# Altium integrated library TI Amplifiers and Linear Operational Amplifier High Speed.IntLib: 1100 symbols (part 39 of 44)
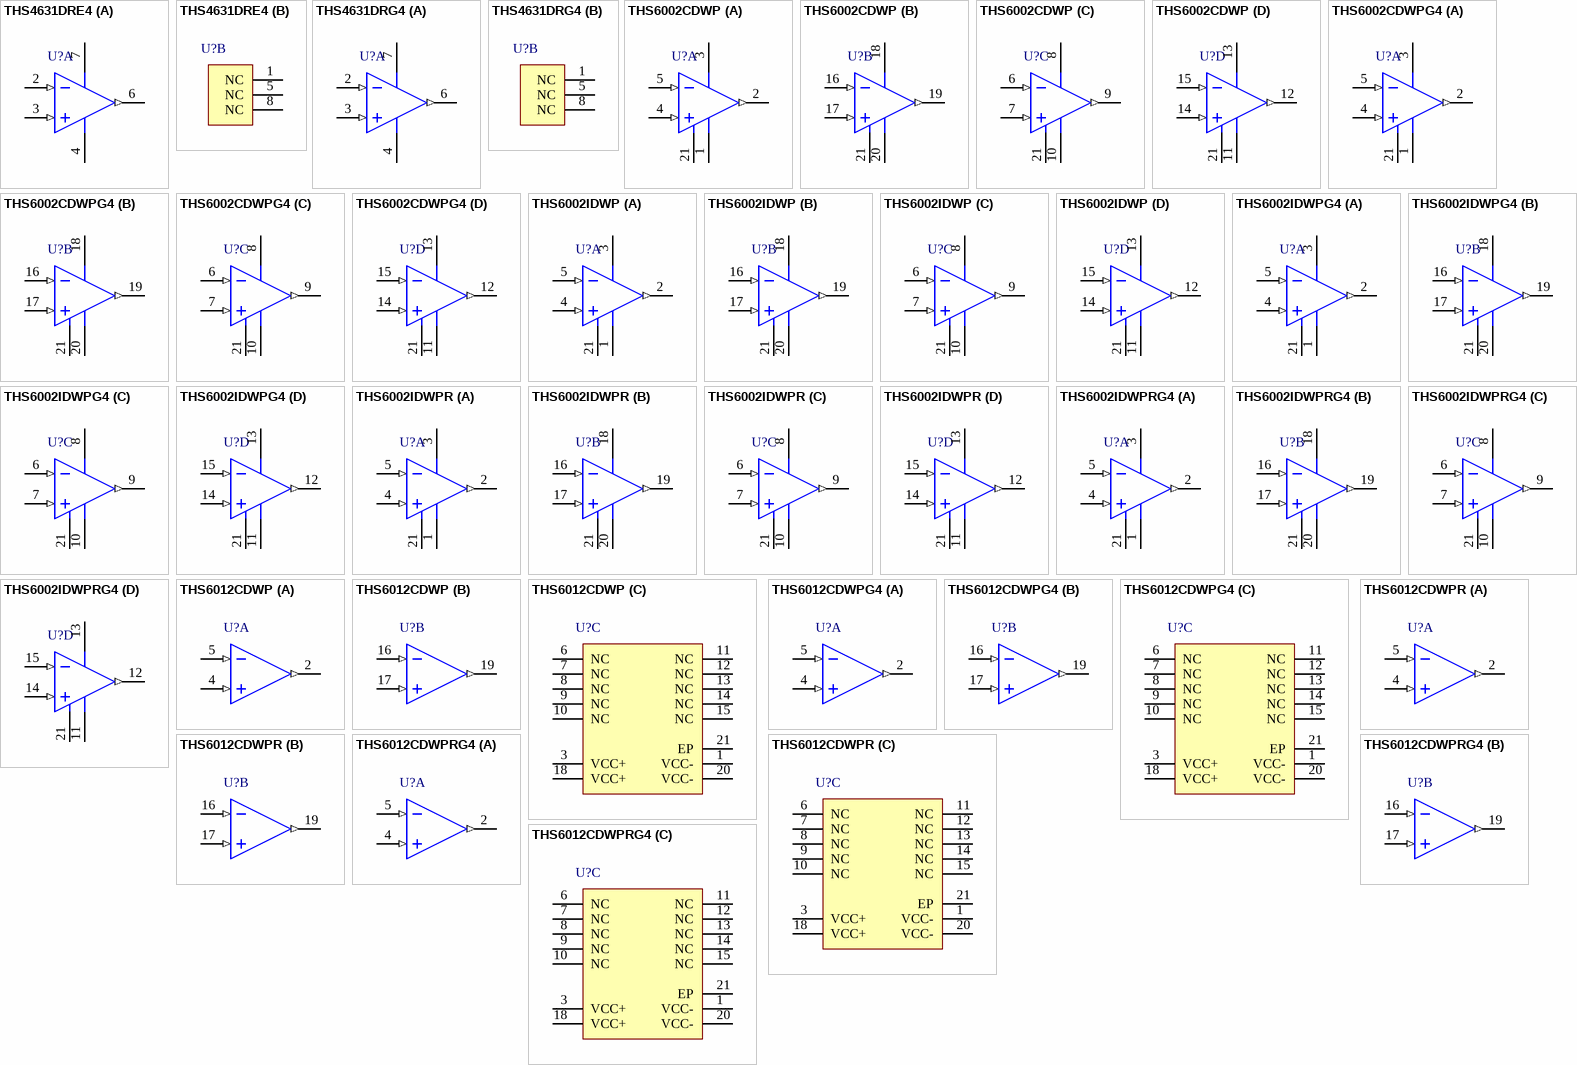
[diagram p89: symbols THS4631DRE4 to THS6012CDWPRG4]

## THS6012CDWP
designator U?
500 mA Dual Differential Line Driver, 9 to 32 V, 0 to 70 degC, 20-pin SOP (DWP20), Green (RoHS & no Sb/Br); Manufacturer: Texas Instruments; PartNumber: THS6012CDWP; 2nd Harmonic(dBc): 80; 3rd Harmonic(dBc): 85; @ MHz: 1; BW @ Acl(MHz): 140; Diff Gain(%): 0.05; Diff Phase(deg): 0.08; Iib(Max)(nA): 12000; Io(Typ)(mA): 500; Number of Channels: 2; Settling Time (0.1%)(Typ)(ns): 70; Slew Rate(Typ)(V/us): 1300; Sub Family: High Output Current Amplifier (>=50mA), High Speed Amplifier (>=50MHz), High Supply Voltage Amplifier (>=30V); THD (Fc is 1 MHz)(Typ)(dB): -65; Vio(Max)(mV): 5; Vn at Flatband(Typ)(nV/rtHz): 1.7; Vs(Max)(V): 32; Vs(Min)(V): 9; DatasheetVersion: SLOS226F; PackageVersion: 4147575/C, 02/2005; PackageReference: DWP20-3470X2350TP; PackageDescription: 20-Pin PowerPAD(TM) Plastic Small-Outline Package, Body 12.825 x 7.52 mm, Pitch 1.27 mm; Supplier 1: Digi-Key; Supplier Part Number 1: 296-2372-5-ND; Supplier 2: Farnell; Supplier Part Number 2: 1212367; Supplier 3: Newark; Supplier Part Number 3: 01M9256; Supplier 4: Newark; Supplier Part Number 4: 76C6513; Supplier 5: Mouser; Supplier Part Number 5: 595-THS6012CDWP; Acl, min stable gain(V/V): 1; Eco-Plan: Green (RoHS & no Sb/Br); Mounting Technology: Surface Mount; ComponentLink1Description: Manufacturer URL; ComponentLink1URL: http://www.ti.com/; ComponentLink2Description: Datasheet; ComponentLink2URL: http://www.ti.com/general/docs/lit/getliterature.tsp?genericPartNumber=THS6012&fileType=pdf; ComponentLink3Description: Package Specification; ComponentLink3URL: http://www.ti.com/lit/ml/mpds032b/mpds032b.pdf
footprint TI-DWP20-3470X2350TP_N (SOP, 20-Leads, Body 12.825x7.52mm, Pitch 1.27mm, Thermal Pad 3.47x2.35mm, IPC Medium Density)
footprint TI-DWP20-3470X2350TP_L (SOP, 20-Leads, Body 12.825x7.52mm, Pitch 1.27mm, Thermal Pad 3.47x2.35mm, IPC High Density)
footprint TI-DWP20-3470X2350TP_M (SOP, 20-Leads, Body 12.825x7.52mm, Pitch 1.27mm, Thermal Pad 3.47x2.35mm, IPC Low Density)
part A pins: 2 OUT1 (out), 4 IN1+ (in), 5 IN1- (in)
part B pins: 16 IN2- (in), 17 IN2+ (in), 19 OUT2 (out)
part C pins: 1 VCC- (power), 3 VCC+ (power), 6 NC, 7 NC, 8 NC, 9 NC, 10 NC, 11 NC, 12 NC, 13 NC, 14 NC, 15 NC, 18 VCC+ (power), 20 VCC- (power), 21 EP (power)

## THS6012CDWPG4
designator U?
500 mA Dual Differential Line Driver, 9 to 32 V, 0 to 70 degC, 20-pin SOP (DWP20), Green (RoHS & no Sb/Br); Manufacturer: Texas Instruments; PartNumber: THS6012CDWPG4; 2nd Harmonic(dBc): 80; 3rd Harmonic(dBc): 85; @ MHz: 1; BW @ Acl(MHz): 140; Diff Gain(%): 0.05; Diff Phase(deg): 0.08; Iib(Max)(nA): 12000; Io(Typ)(mA): 500; Number of Channels: 2; Settling Time (0.1%)(Typ)(ns): 70; Slew Rate(Typ)(V/us): 1300; Sub Family: High Output Current Amplifier (>=50mA), High Speed Amplifier (>=50MHz), High Supply Voltage Amplifier (>=30V); THD (Fc is 1 MHz)(Typ)(dB): -65; Vio(Max)(mV): 5; Vn at Flatband(Typ)(nV/rtHz): 1.7; Vs(Max)(V): 32; Vs(Min)(V): 9; DatasheetVersion: SLOS226F; PackageVersion: 4147575/C, 02/2005; PackageReference: DWP20-3470X2350TP; PackageDescription: 20-Pin PowerPAD(TM) Plastic Small-Outline Package, Body 12.825 x 7.52 mm, Pitch 1.27 mm; Supplier 1: Digi-Key; Supplier Part Number 1: THS6012CDWPG4-ND; Supplier 2: Mouser; Supplier Part Number 2: 595-THS6012CDWPG4; Acl, min stable gain(V/V): 1; Eco-Plan: Green (RoHS & no Sb/Br); Mounting Technology: Surface Mount; ComponentLink1Description: Manufacturer URL; ComponentLink1URL: http://www.ti.com/; ComponentLink2Description: Datasheet; ComponentLink2URL: http://www.ti.com/general/docs/lit/getliterature.tsp?genericPartNumber=THS6012&fileType=pdf; ComponentLink3Description: Package Specification; ComponentLink3URL: http://www.ti.com/lit/ml/mpds032b/mpds032b.pdf
footprint TI-DWP20-3470X2350TP_N (SOP, 20-Leads, Body 12.825x7.52mm, Pitch 1.27mm, Thermal Pad 3.47x2.35mm, IPC Medium Density)
footprint TI-DWP20-3470X2350TP_L (SOP, 20-Leads, Body 12.825x7.52mm, Pitch 1.27mm, Thermal Pad 3.47x2.35mm, IPC High Density)
footprint TI-DWP20-3470X2350TP_M (SOP, 20-Leads, Body 12.825x7.52mm, Pitch 1.27mm, Thermal Pad 3.47x2.35mm, IPC Low Density)
part A pins: 2 OUT1 (out), 4 IN1+ (in), 5 IN1- (in)
part B pins: 16 IN2- (in), 17 IN2+ (in), 19 OUT2 (out)
part C pins: 1 VCC- (power), 3 VCC+ (power), 6 NC, 7 NC, 8 NC, 9 NC, 10 NC, 11 NC, 12 NC, 13 NC, 14 NC, 15 NC, 18 VCC+ (power), 20 VCC- (power), 21 EP (power)

## THS6012CDWPR
designator U?
500 mA Dual Differential Line Driver, 9 to 32 V, 0 to 70 degC, 20-pin SOP (DWP20), Green (RoHS & no Sb/Br); Manufacturer: Texas Instruments; PartNumber: THS6012CDWPR; 2nd Harmonic(dBc): 80; 3rd Harmonic(dBc): 85; @ MHz: 1; BW @ Acl(MHz): 140; Diff Gain(%): 0.05; Diff Phase(deg): 0.08; Iib(Max)(nA): 12000; Io(Typ)(mA): 500; Number of Channels: 2; Settling Time (0.1%)(Typ)(ns): 70; Slew Rate(Typ)(V/us): 1300; Sub Family: High Output Current Amplifier (>=50mA), High Speed Amplifier (>=50MHz), High Supply Voltage Amplifier (>=30V); THD (Fc is 1 MHz)(Typ)(dB): -65; Vio(Max)(mV): 5; Vn at Flatband(Typ)(nV/rtHz): 1.7; Vs(Max)(V): 32; Vs(Min)(V): 9; DatasheetVersion: SLOS226F; PackageVersion: 4147575/C, 02/2005; PackageReference: DWP20-3470X2350TP; PackageDescription: 20-Pin PowerPAD(TM) Plastic Small-Outline Package, Body 12.825 x 7.52 mm, Pitch 1.27 mm; Supplier 1: Digi-Key; Supplier Part Number 1: THS6012CDWPR-ND; Supplier 2: Newark; Supplier Part Number 2: 76C6514; Supplier 3: Mouser; Supplier Part Number 3: 595-THS6012CDWPR; Acl, min stable gain(V/V): 1; Eco-Plan: Green (RoHS & no Sb/Br); Mounting Technology: Surface Mount; ComponentLink1Description: Manufacturer URL; ComponentLink1URL: http://www.ti.com/; ComponentLink2Description: Datasheet; ComponentLink2URL: http://www.ti.com/general/docs/lit/getliterature.tsp?genericPartNumber=THS6012&fileType=pdf; ComponentLink3Description: Package Specification; ComponentLink3URL: http://www.ti.com/lit/ml/mpds032b/mpds032b.pdf
footprint TI-DWP20-3470X2350TP_N (SOP, 20-Leads, Body 12.825x7.52mm, Pitch 1.27mm, Thermal Pad 3.47x2.35mm, IPC Medium Density)
footprint TI-DWP20-3470X2350TP_L (SOP, 20-Leads, Body 12.825x7.52mm, Pitch 1.27mm, Thermal Pad 3.47x2.35mm, IPC High Density)
footprint TI-DWP20-3470X2350TP_M (SOP, 20-Leads, Body 12.825x7.52mm, Pitch 1.27mm, Thermal Pad 3.47x2.35mm, IPC Low Density)
part A pins: 2 OUT1 (out), 4 IN1+ (in), 5 IN1- (in)
part B pins: 16 IN2- (in), 17 IN2+ (in), 19 OUT2 (out)
part C pins: 1 VCC- (power), 3 VCC+ (power), 6 NC, 7 NC, 8 NC, 9 NC, 10 NC, 11 NC, 12 NC, 13 NC, 14 NC, 15 NC, 18 VCC+ (power), 20 VCC- (power), 21 EP (power)

## THS6012CDWPRG4
designator U?
500 mA Dual Differential Line Driver, 9 to 32 V, 0 to 70 degC, 20-pin SOP (DWP20), Green (RoHS & no Sb/Br); Manufacturer: Texas Instruments; PartNumber: THS6012CDWPRG4; 2nd Harmonic(dBc): 80; 3rd Harmonic(dBc): 85; @ MHz: 1; BW @ Acl(MHz): 140; Diff Gain(%): 0.05; Diff Phase(deg): 0.08; Iib(Max)(nA): 12000; Io(Typ)(mA): 500; Number of Channels: 2; Settling Time (0.1%)(Typ)(ns): 70; Slew Rate(Typ)(V/us): 1300; Sub Family: High Output Current Amplifier (>=50mA), High Speed Amplifier (>=50MHz), High Supply Voltage Amplifier (>=30V); THD (Fc is 1 MHz)(Typ)(dB): -65; Vio(Max)(mV): 5; Vn at Flatband(Typ)(nV/rtHz): 1.7; Vs(Max)(V): 32; Vs(Min)(V): 9; DatasheetVersion: SLOS226F; PackageVersion: 4147575/C, 02/2005; PackageReference: DWP20-3470X2350TP; PackageDescription: 20-Pin PowerPAD(TM) Plastic Small-Outline Package, Body 12.825 x 7.52 mm, Pitch 1.27 mm; Supplier 1: Digi-Key; Supplier Part Number 1: THS6012CDWPRG4-ND; Supplier 2: Newark; Supplier Part Number 2: 61K1745; Supplier 3: Mouser; Supplier Part Number 3: 595-THS6012CDWPRG4; Acl, min stable gain(V/V): 1; Eco-Plan: Green (RoHS & no Sb/Br); Mounting Technology: Surface Mount; ComponentLink1Description: Manufacturer URL; ComponentLink1URL: http://www.ti.com/; ComponentLink2Description: Datasheet; ComponentLink2URL: http://www.ti.com/general/docs/lit/getliterature.tsp?genericPartNumber=THS6012&fileType=pdf; ComponentLink3Description: Package Specification; ComponentLink3URL: http://www.ti.com/lit/ml/mpds032b/mpds032b.pdf
footprint TI-DWP20-3470X2350TP_N (SOP, 20-Leads, Body 12.825x7.52mm, Pitch 1.27mm, Thermal Pad 3.47x2.35mm, IPC Medium Density)
footprint TI-DWP20-3470X2350TP_L (SOP, 20-Leads, Body 12.825x7.52mm, Pitch 1.27mm, Thermal Pad 3.47x2.35mm, IPC High Density)
footprint TI-DWP20-3470X2350TP_M (SOP, 20-Leads, Body 12.825x7.52mm, Pitch 1.27mm, Thermal Pad 3.47x2.35mm, IPC Low Density)
part A pins: 2 OUT1 (out), 4 IN1+ (in), 5 IN1- (in)
part B pins: 16 IN2- (in), 17 IN2+ (in), 19 OUT2 (out)
part C pins: 1 VCC- (power), 3 VCC+ (power), 6 NC, 7 NC, 8 NC, 9 NC, 10 NC, 11 NC, 12 NC, 13 NC, 14 NC, 15 NC, 18 VCC+ (power), 20 VCC- (power), 21 EP (power)

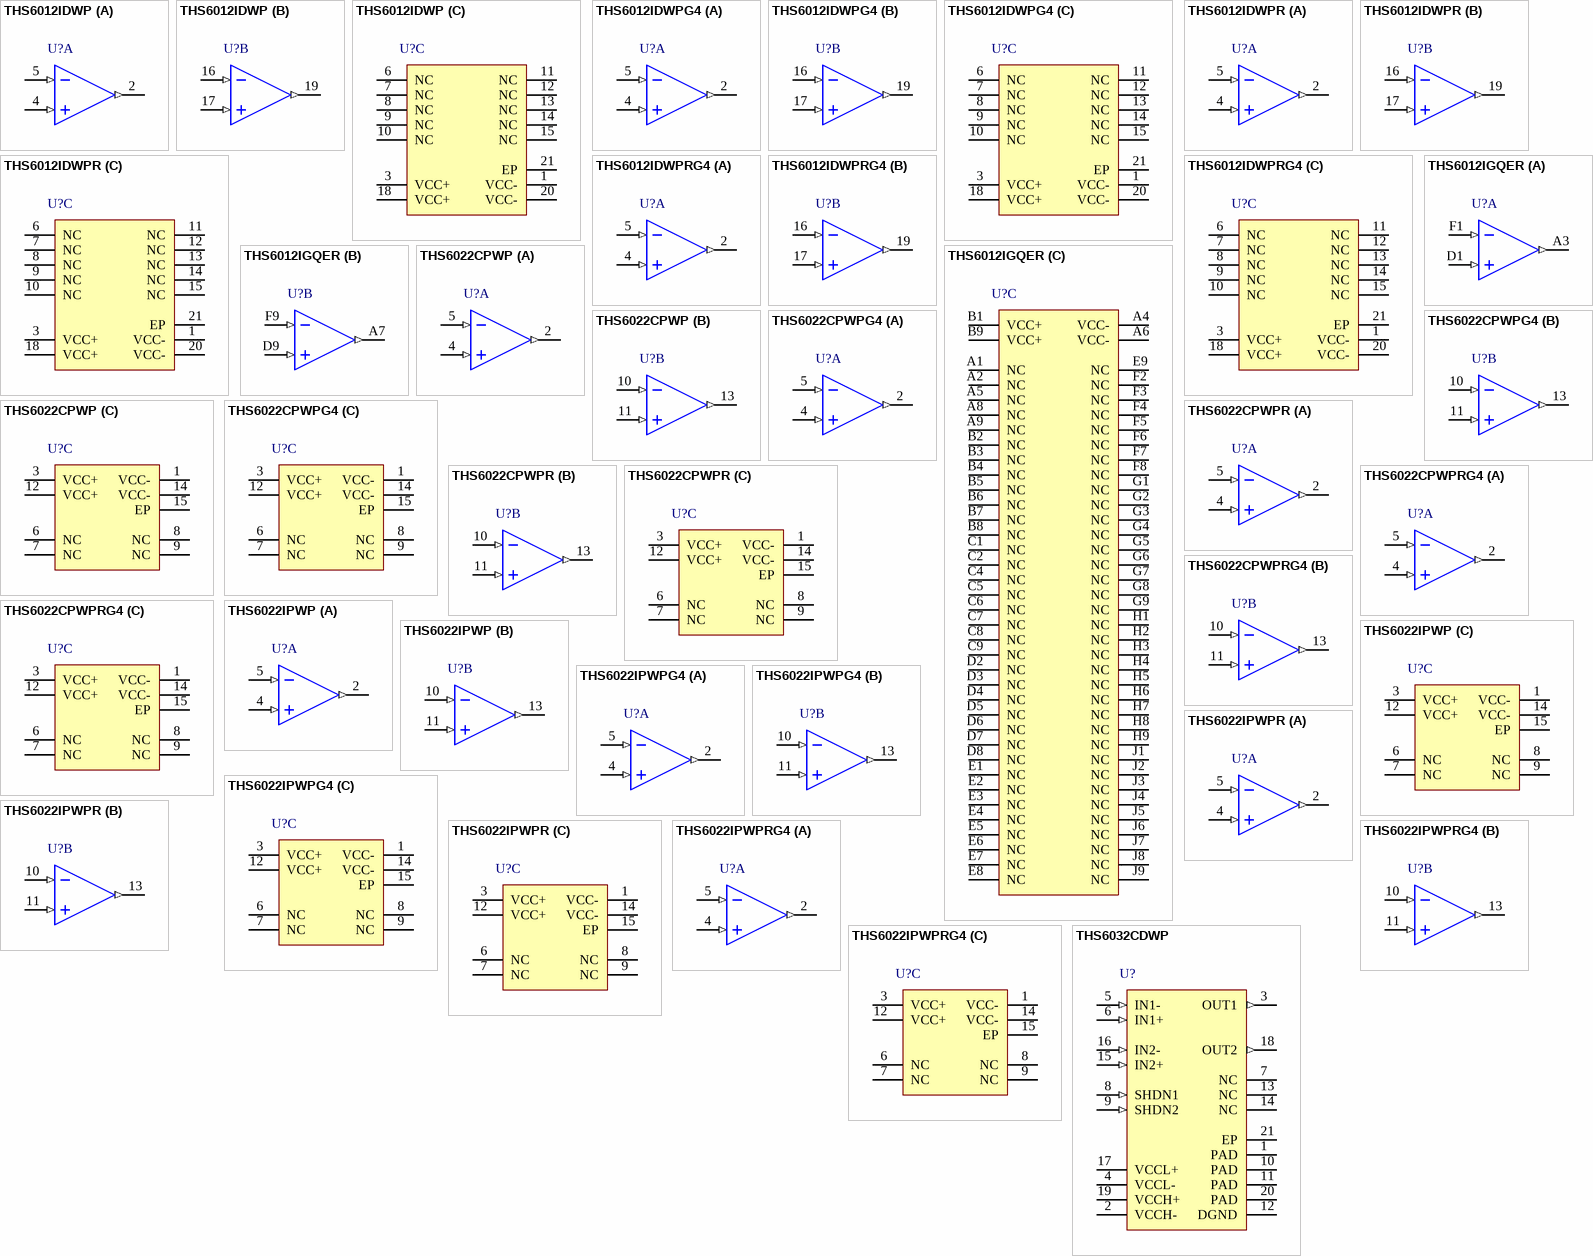
[diagram p45: symbols THS6012IDWP to THS6032CDWP]

## THS6012IDWP
designator U?
500 mA Dual Differential Line Driver, 9 to 32 V, -40 to 85 degC, 20-pin SOP (DWP20), Green (RoHS & no Sb/Br); Manufacturer: Texas Instruments; PartNumber: THS6012IDWP; 2nd Harmonic(dBc): 80; 3rd Harmonic(dBc): 85; @ MHz: 1; BW @ Acl(MHz): 140; Diff Gain(%): 0.05; Diff Phase(deg): 0.08; Iib(Max)(nA): 12000; Io(Typ)(mA): 500; Number of Channels: 2; Settling Time (0.1%)(Typ)(ns): 70; Slew Rate(Typ)(V/us): 1300; Sub Family: High Output Current Amplifier (>=50mA), High Speed Amplifier (>=50MHz), High Supply Voltage Amplifier (>=30V); THD (Fc is 1 MHz)(Typ)(dB): -65; Vio(Max)(mV): 5; Vn at Flatband(Typ)(nV/rtHz): 1.7; Vs(Max)(V): 32; Vs(Min)(V): 9; DatasheetVersion: SLOS226F; PackageVersion: 4147575/C, 02/2005; PackageReference: DWP20-3470X2350TP; PackageDescription: 20-Pin PowerPAD(TM) Plastic Small-Outline Package, Body 12.825 x 7.52 mm, Pitch 1.27 mm; Supplier 1: Digi-Key; Supplier Part Number 1: 296-1767-5-ND; Supplier 2: Farnell; Supplier Part Number 2: 8453454; Supplier 3: Newark; Supplier Part Number 3: 28M9297; Supplier 4: Mouser; Supplier Part Number 4: 595-THS6012IDWP; Acl, min stable gain(V/V): 1; Eco-Plan: Green (RoHS & no Sb/Br); Mounting Technology: Surface Mount; ComponentLink1Description: Manufacturer URL; ComponentLink1URL: http://www.ti.com/; ComponentLink2Description: Datasheet; ComponentLink2URL: http://www.ti.com/general/docs/lit/getliterature.tsp?genericPartNumber=THS6012&fileType=pdf; ComponentLink3Description: Package Specification; ComponentLink3URL: http://www.ti.com/lit/ml/mpds032b/mpds032b.pdf
footprint TI-DWP20-3470X2350TP_N (SOP, 20-Leads, Body 12.825x7.52mm, Pitch 1.27mm, Thermal Pad 3.47x2.35mm, IPC Medium Density)
footprint TI-DWP20-3470X2350TP_L (SOP, 20-Leads, Body 12.825x7.52mm, Pitch 1.27mm, Thermal Pad 3.47x2.35mm, IPC High Density)
footprint TI-DWP20-3470X2350TP_M (SOP, 20-Leads, Body 12.825x7.52mm, Pitch 1.27mm, Thermal Pad 3.47x2.35mm, IPC Low Density)
part A pins: 2 OUT1 (out), 4 IN1+ (in), 5 IN1- (in)
part B pins: 16 IN2- (in), 17 IN2+ (in), 19 OUT2 (out)
part C pins: 1 VCC- (power), 3 VCC+ (power), 6 NC, 7 NC, 8 NC, 9 NC, 10 NC, 11 NC, 12 NC, 13 NC, 14 NC, 15 NC, 18 VCC+ (power), 20 VCC- (power), 21 EP (power)

## THS6012IDWPG4
designator U?
500 mA Dual Differential Line Driver, 9 to 32 V, -40 to 85 degC, 20-pin SOP (DWP20), Green (RoHS & no Sb/Br); Manufacturer: Texas Instruments; PartNumber: THS6012IDWPG4; 2nd Harmonic(dBc): 80; 3rd Harmonic(dBc): 85; @ MHz: 1; BW @ Acl(MHz): 140; Diff Gain(%): 0.05; Diff Phase(deg): 0.08; Iib(Max)(nA): 12000; Io(Typ)(mA): 500; Number of Channels: 2; Settling Time (0.1%)(Typ)(ns): 70; Slew Rate(Typ)(V/us): 1300; Sub Family: High Output Current Amplifier (>=50mA), High Speed Amplifier (>=50MHz), High Supply Voltage Amplifier (>=30V); THD (Fc is 1 MHz)(Typ)(dB): -65; Vio(Max)(mV): 5; Vn at Flatband(Typ)(nV/rtHz): 1.7; Vs(Max)(V): 32; Vs(Min)(V): 9; DatasheetVersion: SLOS226F; PackageVersion: 4147575/C, 02/2005; PackageReference: DWP20-3470X2350TP; PackageDescription: 20-Pin PowerPAD(TM) Plastic Small-Outline Package, Body 12.825 x 7.52 mm, Pitch 1.27 mm; Supplier 1: Digi-Key; Supplier Part Number 1: THS6012IDWPG4-ND; Supplier 2: Newark; Supplier Part Number 2: 41M5387; Supplier 3: Mouser; Supplier Part Number 3: 595-THS6012IDWPG4; Acl, min stable gain(V/V): 1; Eco-Plan: Green (RoHS & no Sb/Br); Mounting Technology: Surface Mount; ComponentLink1Description: Manufacturer URL; ComponentLink1URL: http://www.ti.com/; ComponentLink2Description: Datasheet; ComponentLink2URL: http://www.ti.com/general/docs/lit/getliterature.tsp?genericPartNumber=THS6012&fileType=pdf; ComponentLink3Description: Package Specification; ComponentLink3URL: http://www.ti.com/lit/ml/mpds032b/mpds032b.pdf
footprint TI-DWP20-3470X2350TP_N (SOP, 20-Leads, Body 12.825x7.52mm, Pitch 1.27mm, Thermal Pad 3.47x2.35mm, IPC Medium Density)
footprint TI-DWP20-3470X2350TP_L (SOP, 20-Leads, Body 12.825x7.52mm, Pitch 1.27mm, Thermal Pad 3.47x2.35mm, IPC High Density)
footprint TI-DWP20-3470X2350TP_M (SOP, 20-Leads, Body 12.825x7.52mm, Pitch 1.27mm, Thermal Pad 3.47x2.35mm, IPC Low Density)
part A pins: 2 OUT1 (out), 4 IN1+ (in), 5 IN1- (in)
part B pins: 16 IN2- (in), 17 IN2+ (in), 19 OUT2 (out)
part C pins: 1 VCC- (power), 3 VCC+ (power), 6 NC, 7 NC, 8 NC, 9 NC, 10 NC, 11 NC, 12 NC, 13 NC, 14 NC, 15 NC, 18 VCC+ (power), 20 VCC- (power), 21 EP (power)

## THS6012IDWPR
designator U?
500 mA Dual Differential Line Driver, 9 to 32 V, -40 to 85 degC, 20-pin SOP (DWP20), Green (RoHS & no Sb/Br); Manufacturer: Texas Instruments; PartNumber: THS6012IDWPR; 2nd Harmonic(dBc): 80; 3rd Harmonic(dBc): 85; @ MHz: 1; BW @ Acl(MHz): 140; Diff Gain(%): 0.05; Diff Phase(deg): 0.08; Iib(Max)(nA): 12000; Io(Typ)(mA): 500; Number of Channels: 2; Settling Time (0.1%)(Typ)(ns): 70; Slew Rate(Typ)(V/us): 1300; Sub Family: High Output Current Amplifier (>=50mA), High Speed Amplifier (>=50MHz), High Supply Voltage Amplifier (>=30V); THD (Fc is 1 MHz)(Typ)(dB): -65; Vio(Max)(mV): 5; Vn at Flatband(Typ)(nV/rtHz): 1.7; Vs(Max)(V): 32; Vs(Min)(V): 9; DatasheetVersion: SLOS226F; PackageVersion: 4147575/C, 02/2005; PackageReference: DWP20-3470X2350TP; PackageDescription: 20-Pin PowerPAD(TM) Plastic Small-Outline Package, Body 12.825 x 7.52 mm, Pitch 1.27 mm; Supplier 1: Digi-Key; Supplier Part Number 1: THS6012IDWPR-ND; Supplier 2: Newark; Supplier Part Number 2: 76C6516; Supplier 3: Mouser; Supplier Part Number 3: 595-THS6012IDWPR; Acl, min stable gain(V/V): 1; Eco-Plan: Green (RoHS & no Sb/Br); Mounting Technology: Surface Mount; ComponentLink1Description: Manufacturer URL; ComponentLink1URL: http://www.ti.com/; ComponentLink2Description: Datasheet; ComponentLink2URL: http://www.ti.com/general/docs/lit/getliterature.tsp?genericPartNumber=THS6012&fileType=pdf; ComponentLink3Description: Package Specification; ComponentLink3URL: http://www.ti.com/lit/ml/mpds032b/mpds032b.pdf
footprint TI-DWP20-3470X2350TP_N (SOP, 20-Leads, Body 12.825x7.52mm, Pitch 1.27mm, Thermal Pad 3.47x2.35mm, IPC Medium Density)
footprint TI-DWP20-3470X2350TP_L (SOP, 20-Leads, Body 12.825x7.52mm, Pitch 1.27mm, Thermal Pad 3.47x2.35mm, IPC High Density)
footprint TI-DWP20-3470X2350TP_M (SOP, 20-Leads, Body 12.825x7.52mm, Pitch 1.27mm, Thermal Pad 3.47x2.35mm, IPC Low Density)
part A pins: 2 OUT1 (out), 4 IN1+ (in), 5 IN1- (in)
part B pins: 16 IN2- (in), 17 IN2+ (in), 19 OUT2 (out)
part C pins: 1 VCC- (power), 3 VCC+ (power), 6 NC, 7 NC, 8 NC, 9 NC, 10 NC, 11 NC, 12 NC, 13 NC, 14 NC, 15 NC, 18 VCC+ (power), 20 VCC- (power), 21 EP (power)

## THS6012IDWPRG4
designator U?
500 mA Dual Differential Line Driver, 9 to 32 V, -40 to 85 degC, 20-pin SOP (DWP20), Green (RoHS & no Sb/Br); Manufacturer: Texas Instruments; PartNumber: THS6012IDWPRG4; 2nd Harmonic(dBc): 80; 3rd Harmonic(dBc): 85; @ MHz: 1; BW @ Acl(MHz): 140; Diff Gain(%): 0.05; Diff Phase(deg): 0.08; Iib(Max)(nA): 12000; Io(Typ)(mA): 500; Number of Channels: 2; Settling Time (0.1%)(Typ)(ns): 70; Slew Rate(Typ)(V/us): 1300; Sub Family: High Output Current Amplifier (>=50mA), High Speed Amplifier (>=50MHz), High Supply Voltage Amplifier (>=30V); THD (Fc is 1 MHz)(Typ)(dB): -65; Vio(Max)(mV): 5; Vn at Flatband(Typ)(nV/rtHz): 1.7; Vs(Max)(V): 32; Vs(Min)(V): 9; DatasheetVersion: SLOS226F; PackageVersion: 4147575/C, 02/2005; PackageReference: DWP20-3470X2350TP; PackageDescription: 20-Pin PowerPAD(TM) Plastic Small-Outline Package, Body 12.825 x 7.52 mm, Pitch 1.27 mm; Supplier 1: Digi-Key; Supplier Part Number 1: THS6012IDWPRG4-ND; Supplier 2: Newark; Supplier Part Number 2: 61K1746; Supplier 3: Mouser; Supplier Part Number 3: 595-THS6012IDWPRG4; Acl, min stable gain(V/V): 1; Eco-Plan: Green (RoHS & no Sb/Br); Mounting Technology: Surface Mount; ComponentLink1Description: Manufacturer URL; ComponentLink1URL: http://www.ti.com/; ComponentLink2Description: Datasheet; ComponentLink2URL: http://www.ti.com/general/docs/lit/getliterature.tsp?genericPartNumber=THS6012&fileType=pdf; ComponentLink3Description: Package Specification; ComponentLink3URL: http://www.ti.com/lit/ml/mpds032b/mpds032b.pdf
footprint TI-DWP20-3470X2350TP_N (SOP, 20-Leads, Body 12.825x7.52mm, Pitch 1.27mm, Thermal Pad 3.47x2.35mm, IPC Medium Density)
footprint TI-DWP20-3470X2350TP_L (SOP, 20-Leads, Body 12.825x7.52mm, Pitch 1.27mm, Thermal Pad 3.47x2.35mm, IPC High Density)
footprint TI-DWP20-3470X2350TP_M (SOP, 20-Leads, Body 12.825x7.52mm, Pitch 1.27mm, Thermal Pad 3.47x2.35mm, IPC Low Density)
part A pins: 2 OUT1 (out), 4 IN1+ (in), 5 IN1- (in)
part B pins: 16 IN2- (in), 17 IN2+ (in), 19 OUT2 (out)
part C pins: 1 VCC- (power), 3 VCC+ (power), 6 NC, 7 NC, 8 NC, 9 NC, 10 NC, 11 NC, 12 NC, 13 NC, 14 NC, 15 NC, 18 VCC+ (power), 20 VCC- (power), 21 EP (power)

## THS6012IGQER
designator U?
500 mA Dual Differential Line Driver, 9 to 32 V, -40 to 85 degC, 80-pin BGA (GQE80); Manufacturer: Texas Instruments; PartNumber: THS6012IGQER; 2nd Harmonic(dBc): 80; 3rd Harmonic(dBc): 85; @ MHz: 1; BW @ Acl(MHz): 140; Diff Gain(%): 0.05; Diff Phase(deg): 0.08; Eco-Plan: Green (RoHS & no Sb/Br); Iib(Max)(nA): 12000; Io(Typ)(mA): 500; Number of Channels: 2; Settling Time (0.1%)(Typ)(ns): 70; Slew Rate(Typ)(V/us): 1300; Sub Family: High Output Current Amplifier (>=50mA), High Speed Amplifier (>=50MHz), High Supply Voltage Amplifier (>=30V); THD (Fc is 1 MHz)(Typ)(dB): -65; Vio(Max)(mV): 5; Vn at Flatband(Typ)(nV/rtHz): 1.7; Vs(Max)(V): 32; Vs(Min)(V): 9; DatasheetVersion: SLOS226F; PackageVersion: 4200461-4/G, 10/2005; PackageReference: GQE80; PackageDescription: 80-Ball Plastic Ball Grid Array, Body 5 x 5 mm, Pitch 0.5 mm; Supplier 1: Digi-Key; Supplier Part Number 1: 296-10062-2-ND; Supplier 2: Digi-Key; Supplier Part Number 2: 296-10062-1-ND; Supplier 3: Digi-Key; Supplier Part Number 3: 296-10062-6-ND; Supplier 4: Newark; Supplier Part Number 4: 76C6517; Supplier 5: Mouser; Supplier Part Number 5: 595-THS6012IGQER; Acl, min stable gain(V/V): 1; Mounting Technology: Surface Mount; Code_JEDEC: MO-225; ComponentLink1Description: Manufacturer URL; ComponentLink1URL: http://www.ti.com/; ComponentLink2Description: Datasheet; ComponentLink2URL: http://www.ti.com/general/docs/lit/getliterature.tsp?genericPartNumber=THS6012&fileType=pdf; ComponentLink3Description: Package Specification; ComponentLink3URL: http://www.ti.com/litv/pdf/mplg004f
footprint TI-GQE80 (BGA, 80-Balls, Body 5x5mm, Pitch 0.5mm)
part A pins: A3 OUT1 (out), D1 IN1+ (in), F1 IN1- (in)
part B pins: A7 OUT2 (out), D9 IN2+ (in), F9 IN2- (in)
part C pins: A1 NC, A2 NC, A4 VCC- (power), A5 NC, A6 VCC- (power), A8 NC, A9 NC, B1 VCC+ (power), B2 NC, B3 NC, B4 NC, B5 NC, B6 NC, B7 NC, B8 NC, B9 VCC+ (power), C1 NC, C2 NC, C4 NC, C5 NC, C6 NC, C7 NC, C8 NC, C9 NC, D2 NC, D3 NC, D4 NC, D5 NC, D6 NC, D7 NC, D8 NC, E1 NC, E2 NC, E3 NC, E4 NC, E5 NC, E6 NC, E7 NC, E8 NC, E9 NC, F2 NC, F3 NC, F4 NC, F5 NC, F6 NC, F7 NC, F8 NC, G1 NC, G2 NC, G3 NC, G4 NC, G5 NC, G6 NC, G7 NC, G8 NC, G9 NC, H1 NC, H2 NC, H3 NC, H4 NC, H5 NC, H6 NC, H7 NC, H8 NC, H9 NC, J1 NC, J2 NC, J3 NC, J4 NC, J5 NC, J6 NC, J7 NC, J8 NC, J9 NC

## THS6022CPWP
designator U?
250 mA Dual Differential Line Driver, 9 to 32 V, 0 to 70 degC, 14-pin SOP (PWP14), Green (RoHS & no Sb/Br); Manufacturer: Texas Instruments; PartNumber: THS6022CPWP; 2nd Harmonic(dBc): 76; 3rd Harmonic(dBc): 80; @ MHz: 1; BW @ Acl(MHz): 210; Diff Gain(%): 0.04; Diff Phase(deg): 0.06; Iib(Max)(nA): 12000; Io(Typ)(mA): 250; Iq per channel(Max)(mA): 10; Number of Channels: 2; Settling Time (0.1%)(Typ)(ns): 70; Slew Rate(Typ)(V/us): 1900; Sub Family: High Output Current Amplifier (>=50mA), High Speed Amplifier (>=50MHz), High Supply Voltage Amplifier (>=30V); THD (Fc is 1 MHz)(Typ)(dB): -66; Vio(Max)(mV): 4; Vn at Flatband(Typ)(nV/rtHz): 1.7; Vs(Max)(V): 32; Vs(Min)(V): 9; DatasheetVersion: SLOS225D; PackageVersion: 4073225-2/I, 05/2011; PackageReference: PWP14-1830X2055TP; PackageDescription: 14-Pin Plastic Small Outline, Body 4.4 x 5 mm, Pitch 0.65 mm; Supplier 1: Digi-Key; Supplier Part Number 1: 296-1768-5-ND; Supplier 2: Newark; Supplier Part Number 2: 20M5799; Supplier 3: Mouser; Supplier Part Number 3: 595-THS6022CPWP; Acl, min stable gain(V/V): 1; Eco-Plan: Green (RoHS & no Sb/Br); Mounting Technology: Surface Mount; Code_JEDEC: MO-153; ComponentLink1Description: Manufacturer URL; ComponentLink1URL: http://www.ti.com/; ComponentLink2Description: Datasheet; ComponentLink2URL: http://www.ti.com/general/docs/lit/getliterature.tsp?genericPartNumber=THS6022&fileType=pdf; ComponentLink3Description: Package Specification; ComponentLink3URL: http://www.ti.com/litv/pdf/mpds373
footprint TI-PWP14-1830X2055TP_N (SOP, 14-Leads, Body 5x4.4mm, Pitch 0.65mm, Thermal Pad 1.830x2.055mm, IPC Medium Density)
footprint TI-PWP14-1830X2055TP_L (SOP, 14-Leads, Body 5x4.4mm, Pitch 0.65mm, Thermal Pad 1.830x2.055mm, IPC High Density)
footprint TI-PWP14-1830X2055TP_M (SOP, 14-Leads, Body 5x4.4mm, Pitch 0.65mm, Thermal Pad 1.830x2.055mm, IPC Low Density)
part A pins: 2 OUT1 (out), 4 IN1+ (in), 5 IN1- (in)
part B pins: 10 IN2- (in), 11 IN2+ (in), 13 OUT2 (out)
part C pins: 1 VCC- (power), 3 VCC+ (power), 6 NC, 7 NC, 8 NC, 9 NC, 12 VCC+ (power), 14 VCC- (power), 15 EP

## THS6022CPWPG4
designator U?
250 mA Dual Differential Line Driver, 9 to 32 V, 0 to 70 degC, 14-pin SOP (PWP14), Green (RoHS & no Sb/Br); Manufacturer: Texas Instruments; PartNumber: THS6022CPWPG4; 2nd Harmonic(dBc): 76; 3rd Harmonic(dBc): 80; @ MHz: 1; BW @ Acl(MHz): 210; Diff Gain(%): 0.04; Diff Phase(deg): 0.06; Iib(Max)(nA): 12000; Io(Typ)(mA): 250; Iq per channel(Max)(mA): 10; Number of Channels: 2; Settling Time (0.1%)(Typ)(ns): 70; Slew Rate(Typ)(V/us): 1900; Sub Family: High Output Current Amplifier (>=50mA), High Speed Amplifier (>=50MHz), High Supply Voltage Amplifier (>=30V); THD (Fc is 1 MHz)(Typ)(dB): -66; Vio(Max)(mV): 4; Vn at Flatband(Typ)(nV/rtHz): 1.7; Vs(Max)(V): 32; Vs(Min)(V): 9; DatasheetVersion: SLOS225D; PackageVersion: 4073225-2/I, 05/2011; PackageReference: PWP14-1830X2055TP; PackageDescription: 14-Pin Plastic Small Outline, Body 4.4 x 5 mm, Pitch 0.65 mm; Supplier 1: Digi-Key; Supplier Part Number 1: THS6022CPWPG4-ND; Supplier 2: Newark; Supplier Part Number 2: 33K6982; Supplier 3: Mouser; Supplier Part Number 3: 595-THS6022CPWPG4; Acl, min stable gain(V/V): 1; Eco-Plan: Green (RoHS & no Sb/Br); Mounting Technology: Surface Mount; Code_JEDEC: MO-153; ComponentLink1Description: Manufacturer URL; ComponentLink1URL: http://www.ti.com/; ComponentLink2Description: Datasheet; ComponentLink2URL: http://www.ti.com/general/docs/lit/getliterature.tsp?genericPartNumber=THS6022&fileType=pdf; ComponentLink3Description: Package Specification; ComponentLink3URL: http://www.ti.com/litv/pdf/mpds373
footprint TI-PWP14-1830X2055TP_N (SOP, 14-Leads, Body 5x4.4mm, Pitch 0.65mm, Thermal Pad 1.830x2.055mm, IPC Medium Density)
footprint TI-PWP14-1830X2055TP_L (SOP, 14-Leads, Body 5x4.4mm, Pitch 0.65mm, Thermal Pad 1.830x2.055mm, IPC High Density)
footprint TI-PWP14-1830X2055TP_M (SOP, 14-Leads, Body 5x4.4mm, Pitch 0.65mm, Thermal Pad 1.830x2.055mm, IPC Low Density)
part A pins: 2 OUT1 (out), 4 IN1+ (in), 5 IN1- (in)
part B pins: 10 IN2- (in), 11 IN2+ (in), 13 OUT2 (out)
part C pins: 1 VCC- (power), 3 VCC+ (power), 6 NC, 7 NC, 8 NC, 9 NC, 12 VCC+ (power), 14 VCC- (power), 15 EP

## THS6022CPWPR
designator U?
250 mA Dual Differential Line Driver, 9 to 32 V, 0 to 70 degC, 14-pin SOP (PWP14), Green (RoHS & no Sb/Br); Manufacturer: Texas Instruments; PartNumber: THS6022CPWPR; 2nd Harmonic(dBc): 76; 3rd Harmonic(dBc): 80; @ MHz: 1; BW @ Acl(MHz): 210; Diff Gain(%): 0.04; Diff Phase(deg): 0.06; Iib(Max)(nA): 12000; Io(Typ)(mA): 250; Iq per channel(Max)(mA): 10; Number of Channels: 2; Settling Time (0.1%)(Typ)(ns): 70; Slew Rate(Typ)(V/us): 1900; Sub Family: High Output Current Amplifier (>=50mA), High Speed Amplifier (>=50MHz), High Supply Voltage Amplifier (>=30V); THD (Fc is 1 MHz)(Typ)(dB): -66; Vio(Max)(mV): 4; Vn at Flatband(Typ)(nV/rtHz): 1.7; Vs(Max)(V): 32; Vs(Min)(V): 9; DatasheetVersion: SLOS225D; PackageVersion: 4073225-2/I, 05/2011; PackageReference: PWP14-1830X2055TP; PackageDescription: 14-Pin Plastic Small Outline, Body 4.4 x 5 mm, Pitch 0.65 mm; Supplier 1: Digi-Key; Supplier Part Number 1: 296-31935-2-ND; Supplier 2: Digi-Key; Supplier Part Number 2: 296-31935-1-ND; Supplier 3: Digi-Key; Supplier Part Number 3: 296-31935-6-ND; Supplier 4: Newark; Supplier Part Number 4: 76C6518; Supplier 5: Mouser; Supplier Part Number 5: 595-THS6022CPWPR; Acl, min stable gain(V/V): 1; Eco-Plan: Green (RoHS & no Sb/Br); Mounting Technology: Surface Mount; Code_JEDEC: MO-153; ComponentLink1Description: Manufacturer URL; ComponentLink1URL: http://www.ti.com/; ComponentLink2Description: Datasheet; ComponentLink2URL: http://www.ti.com/general/docs/lit/getliterature.tsp?genericPartNumber=THS6022&fileType=pdf; ComponentLink3Description: Package Specification; ComponentLink3URL: http://www.ti.com/litv/pdf/mpds373
footprint TI-PWP14-1830X2055TP_N (SOP, 14-Leads, Body 5x4.4mm, Pitch 0.65mm, Thermal Pad 1.830x2.055mm, IPC Medium Density)
footprint TI-PWP14-1830X2055TP_L (SOP, 14-Leads, Body 5x4.4mm, Pitch 0.65mm, Thermal Pad 1.830x2.055mm, IPC High Density)
footprint TI-PWP14-1830X2055TP_M (SOP, 14-Leads, Body 5x4.4mm, Pitch 0.65mm, Thermal Pad 1.830x2.055mm, IPC Low Density)
part A pins: 2 OUT1 (out), 4 IN1+ (in), 5 IN1- (in)
part B pins: 10 IN2- (in), 11 IN2+ (in), 13 OUT2 (out)
part C pins: 1 VCC- (power), 3 VCC+ (power), 6 NC, 7 NC, 8 NC, 9 NC, 12 VCC+ (power), 14 VCC- (power), 15 EP

## THS6022CPWPRG4
designator U?
250 mA Dual Differential Line Driver, 9 to 32 V, 0 to 70 degC, 14-pin SOP (PWP14), Green (RoHS & no Sb/Br); Manufacturer: Texas Instruments; PartNumber: THS6022CPWPRG4; 2nd Harmonic(dBc): 76; 3rd Harmonic(dBc): 80; @ MHz: 1; BW @ Acl(MHz): 210; Diff Gain(%): 0.04; Diff Phase(deg): 0.06; Iib(Max)(nA): 12000; Io(Typ)(mA): 250; Iq per channel(Max)(mA): 10; Number of Channels: 2; Settling Time (0.1%)(Typ)(ns): 70; Slew Rate(Typ)(V/us): 1900; Sub Family: High Output Current Amplifier (>=50mA), High Speed Amplifier (>=50MHz), High Supply Voltage Amplifier (>=30V); THD (Fc is 1 MHz)(Typ)(dB): -66; Vio(Max)(mV): 4; Vn at Flatband(Typ)(nV/rtHz): 1.7; Vs(Max)(V): 32; Vs(Min)(V): 9; DatasheetVersion: SLOS225D; PackageVersion: 4073225-2/I, 05/2011; PackageReference: PWP14-1830X2055TP; PackageDescription: 14-Pin Plastic Small Outline, Body 4.4 x 5 mm, Pitch 0.65 mm; Supplier 1: Digi-Key; Supplier Part Number 1: THS6022CPWPRG4-ND; Supplier 2: Newark; Supplier Part Number 2: 54K0776; Supplier 3: Mouser; Supplier Part Number 3: 595-THS6022CPWPRG4; Acl, min stable gain(V/V): 1; Eco-Plan: Green (RoHS & no Sb/Br); Mounting Technology: Surface Mount; Code_JEDEC: MO-153; ComponentLink1Description: Manufacturer URL; ComponentLink1URL: http://www.ti.com/; ComponentLink2Description: Datasheet; ComponentLink2URL: http://www.ti.com/general/docs/lit/getliterature.tsp?genericPartNumber=THS6022&fileType=pdf; ComponentLink3Description: Package Specification; ComponentLink3URL: http://www.ti.com/litv/pdf/mpds373
footprint TI-PWP14-1830X2055TP_N (SOP, 14-Leads, Body 5x4.4mm, Pitch 0.65mm, Thermal Pad 1.830x2.055mm, IPC Medium Density)
footprint TI-PWP14-1830X2055TP_L (SOP, 14-Leads, Body 5x4.4mm, Pitch 0.65mm, Thermal Pad 1.830x2.055mm, IPC High Density)
footprint TI-PWP14-1830X2055TP_M (SOP, 14-Leads, Body 5x4.4mm, Pitch 0.65mm, Thermal Pad 1.830x2.055mm, IPC Low Density)
part A pins: 2 OUT1 (out), 4 IN1+ (in), 5 IN1- (in)
part B pins: 10 IN2- (in), 11 IN2+ (in), 13 OUT2 (out)
part C pins: 1 VCC- (power), 3 VCC+ (power), 6 NC, 7 NC, 8 NC, 9 NC, 12 VCC+ (power), 14 VCC- (power), 15 EP

## THS6022IPWP
designator U?
250 mA Dual Differential Line Driver, 9 to 32 V, -40 to 85 degC, 14-pin SOP (PWP14), Green (RoHS & no Sb/Br); Manufacturer: Texas Instruments; PartNumber: THS6022IPWP; 2nd Harmonic(dBc): 76; 3rd Harmonic(dBc): 80; @ MHz: 1; BW @ Acl(MHz): 210; Diff Gain(%): 0.04; Diff Phase(deg): 0.06; Iib(Max)(nA): 12000; Io(Typ)(mA): 250; Iq per channel(Max)(mA): 10; Number of Channels: 2; Settling Time (0.1%)(Typ)(ns): 70; Slew Rate(Typ)(V/us): 1900; Sub Family: High Output Current Amplifier (>=50mA), High Speed Amplifier (>=50MHz), High Supply Voltage Amplifier (>=30V); THD (Fc is 1 MHz)(Typ)(dB): -66; Vio(Max)(mV): 4; Vn at Flatband(Typ)(nV/rtHz): 1.7; Vs(Max)(V): 32; Vs(Min)(V): 9; DatasheetVersion: SLOS225D; PackageVersion: 4073225-2/I, 05/2011; PackageReference: PWP14-1830X2055TP; PackageDescription: 14-Pin Plastic Small Outline, Body 4.4 x 5 mm, Pitch 0.65 mm; Supplier 1: Digi-Key; Supplier Part Number 1: 296-1769-5-ND; Supplier 2: Farnell; Supplier Part Number 2: 1212368; Supplier 3: Newark; Supplier Part Number 3: 01M9257; Supplier 4: Newark; Supplier Part Number 4: 93B4881; Supplier 5: Mouser; Supplier Part Number 5: 595-THS6022IPWP; Acl, min stable gain(V/V): 1; Eco-Plan: Green (RoHS & no Sb/Br); Mounting Technology: Surface Mount; Code_JEDEC: MO-153; ComponentLink1Description: Manufacturer URL; ComponentLink1URL: http://www.ti.com/; ComponentLink2Description: Datasheet; ComponentLink2URL: http://www.ti.com/general/docs/lit/getliterature.tsp?genericPartNumber=THS6022&fileType=pdf; ComponentLink3Description: Package Specification; ComponentLink3URL: http://www.ti.com/litv/pdf/mpds373
footprint TI-PWP14-1830X2055TP_N (SOP, 14-Leads, Body 5x4.4mm, Pitch 0.65mm, Thermal Pad 1.830x2.055mm, IPC Medium Density)
footprint TI-PWP14-1830X2055TP_L (SOP, 14-Leads, Body 5x4.4mm, Pitch 0.65mm, Thermal Pad 1.830x2.055mm, IPC High Density)
footprint TI-PWP14-1830X2055TP_M (SOP, 14-Leads, Body 5x4.4mm, Pitch 0.65mm, Thermal Pad 1.830x2.055mm, IPC Low Density)
part A pins: 2 OUT1 (out), 4 IN1+ (in), 5 IN1- (in)
part B pins: 10 IN2- (in), 11 IN2+ (in), 13 OUT2 (out)
part C pins: 1 VCC- (power), 3 VCC+ (power), 6 NC, 7 NC, 8 NC, 9 NC, 12 VCC+ (power), 14 VCC- (power), 15 EP

## THS6022IPWPG4
designator U?
250 mA Dual Differential Line Driver, 9 to 32 V, -40 to 85 degC, 14-pin SOP (PWP14), Green (RoHS & no Sb/Br); Manufacturer: Texas Instruments; PartNumber: THS6022IPWPG4; 2nd Harmonic(dBc): 76; 3rd Harmonic(dBc): 80; @ MHz: 1; BW @ Acl(MHz): 210; Diff Gain(%): 0.04; Diff Phase(deg): 0.06; Iib(Max)(nA): 12000; Io(Typ)(mA): 250; Iq per channel(Max)(mA): 10; Number of Channels: 2; Settling Time (0.1%)(Typ)(ns): 70; Slew Rate(Typ)(V/us): 1900; Sub Family: High Output Current Amplifier (>=50mA), High Speed Amplifier (>=50MHz), High Supply Voltage Amplifier (>=30V); THD (Fc is 1 MHz)(Typ)(dB): -66; Vio(Max)(mV): 4; Vn at Flatband(Typ)(nV/rtHz): 1.7; Vs(Max)(V): 32; Vs(Min)(V): 9; DatasheetVersion: SLOS225D; PackageVersion: 4073225-2/I, 05/2011; PackageReference: PWP14-1830X2055TP; PackageDescription: 14-Pin Plastic Small Outline, Body 4.4 x 5 mm, Pitch 0.65 mm; Supplier 1: Digi-Key; Supplier Part Number 1: THS6022IPWPG4-ND; Supplier 2: Newark; Supplier Part Number 2: 14M2289; Supplier 3: Mouser; Supplier Part Number 3: 595-THS6022IPWPG4; Acl, min stable gain(V/V): 1; Eco-Plan: Green (RoHS & no Sb/Br); Mounting Technology: Surface Mount; Code_JEDEC: MO-153; ComponentLink1Description: Manufacturer URL; ComponentLink1URL: http://www.ti.com/; ComponentLink2Description: Datasheet; ComponentLink2URL: http://www.ti.com/general/docs/lit/getliterature.tsp?genericPartNumber=THS6022&fileType=pdf; ComponentLink3Description: Package Specification; ComponentLink3URL: http://www.ti.com/litv/pdf/mpds373
footprint TI-PWP14-1830X2055TP_N (SOP, 14-Leads, Body 5x4.4mm, Pitch 0.65mm, Thermal Pad 1.830x2.055mm, IPC Medium Density)
footprint TI-PWP14-1830X2055TP_L (SOP, 14-Leads, Body 5x4.4mm, Pitch 0.65mm, Thermal Pad 1.830x2.055mm, IPC High Density)
footprint TI-PWP14-1830X2055TP_M (SOP, 14-Leads, Body 5x4.4mm, Pitch 0.65mm, Thermal Pad 1.830x2.055mm, IPC Low Density)
part A pins: 2 OUT1 (out), 4 IN1+ (in), 5 IN1- (in)
part B pins: 10 IN2- (in), 11 IN2+ (in), 13 OUT2 (out)
part C pins: 1 VCC- (power), 3 VCC+ (power), 6 NC, 7 NC, 8 NC, 9 NC, 12 VCC+ (power), 14 VCC- (power), 15 EP

## THS6022IPWPR
designator U?
250 mA Dual Differential Line Driver, 9 to 32 V, -40 to 85 degC, 14-pin SOP (PWP14), Green (RoHS & no Sb/Br); Manufacturer: Texas Instruments; PartNumber: THS6022IPWPR; 2nd Harmonic(dBc): 76; 3rd Harmonic(dBc): 80; @ MHz: 1; BW @ Acl(MHz): 210; Diff Gain(%): 0.04; Diff Phase(deg): 0.06; Iib(Max)(nA): 12000; Io(Typ)(mA): 250; Iq per channel(Max)(mA): 10; Number of Channels: 2; Settling Time (0.1%)(Typ)(ns): 70; Slew Rate(Typ)(V/us): 1900; Sub Family: High Output Current Amplifier (>=50mA), High Speed Amplifier (>=50MHz), High Supply Voltage Amplifier (>=30V); THD (Fc is 1 MHz)(Typ)(dB): -66; Vio(Max)(mV): 4; Vn at Flatband(Typ)(nV/rtHz): 1.7; Vs(Max)(V): 32; Vs(Min)(V): 9; DatasheetVersion: SLOS225D; PackageVersion: 4073225-2/I, 05/2011; PackageReference: PWP14-1830X2055TP; PackageDescription: 14-Pin Plastic Small Outline, Body 4.4 x 5 mm, Pitch 0.65 mm; Supplier 1: Digi-Key; Supplier Part Number 1: THS6022IPWPR-ND; Supplier 2: Mouser; Supplier Part Number 2: 595-THS6022IPWPR; Acl, min stable gain(V/V): 1; Eco-Plan: Green (RoHS & no Sb/Br); Mounting Technology: Surface Mount; Code_JEDEC: MO-153; ComponentLink1Description: Manufacturer URL; ComponentLink1URL: http://www.ti.com/; ComponentLink2Description: Datasheet; ComponentLink2URL: http://www.ti.com/general/docs/lit/getliterature.tsp?genericPartNumber=THS6022&fileType=pdf; ComponentLink3Description: Package Specification; ComponentLink3URL: http://www.ti.com/litv/pdf/mpds373
footprint TI-PWP14-1830X2055TP_N (SOP, 14-Leads, Body 5x4.4mm, Pitch 0.65mm, Thermal Pad 1.830x2.055mm, IPC Medium Density)
footprint TI-PWP14-1830X2055TP_L (SOP, 14-Leads, Body 5x4.4mm, Pitch 0.65mm, Thermal Pad 1.830x2.055mm, IPC High Density)
footprint TI-PWP14-1830X2055TP_M (SOP, 14-Leads, Body 5x4.4mm, Pitch 0.65mm, Thermal Pad 1.830x2.055mm, IPC Low Density)
part A pins: 2 OUT1 (out), 4 IN1+ (in), 5 IN1- (in)
part B pins: 10 IN2- (in), 11 IN2+ (in), 13 OUT2 (out)
part C pins: 1 VCC- (power), 3 VCC+ (power), 6 NC, 7 NC, 8 NC, 9 NC, 12 VCC+ (power), 14 VCC- (power), 15 EP

## THS6022IPWPRG4
designator U?
250 mA Dual Differential Line Driver, 9 to 32 V, -40 to 85 degC, 14-pin SOP (PWP14), Green (RoHS & no Sb/Br); Manufacturer: Texas Instruments; PartNumber: THS6022IPWPRG4; 2nd Harmonic(dBc): 76; 3rd Harmonic(dBc): 80; @ MHz: 1; BW @ Acl(MHz): 210; Diff Gain(%): 0.04; Diff Phase(deg): 0.06; Iib(Max)(nA): 12000; Io(Typ)(mA): 250; Iq per channel(Max)(mA): 10; Number of Channels: 2; Settling Time (0.1%)(Typ)(ns): 70; Slew Rate(Typ)(V/us): 1900; Sub Family: High Output Current Amplifier (>=50mA), High Speed Amplifier (>=50MHz), High Supply Voltage Amplifier (>=30V); THD (Fc is 1 MHz)(Typ)(dB): -66; Vio(Max)(mV): 4; Vn at Flatband(Typ)(nV/rtHz): 1.7; Vs(Max)(V): 32; Vs(Min)(V): 9; DatasheetVersion: SLOS225D; PackageVersion: 4073225-2/I, 05/2011; PackageReference: PWP14-1830X2055TP; PackageDescription: 14-Pin Plastic Small Outline, Body 4.4 x 5 mm, Pitch 0.65 mm; Supplier 1: Digi-Key; Supplier Part Number 1: THS6022IPWPRG4-ND; Supplier 2: Mouser; Supplier Part Number 2: 595-THS6022IPWPRG4; Acl, min stable gain(V/V): 1; Eco-Plan: Green (RoHS & no Sb/Br); Mounting Technology: Surface Mount; Code_JEDEC: MO-153; ComponentLink1Description: Manufacturer URL; ComponentLink1URL: http://www.ti.com/; ComponentLink2Description: Datasheet; ComponentLink2URL: http://www.ti.com/general/docs/lit/getliterature.tsp?genericPartNumber=THS6022&fileType=pdf; ComponentLink3Description: Package Specification; ComponentLink3URL: http://www.ti.com/litv/pdf/mpds373
footprint TI-PWP14-1830X2055TP_N (SOP, 14-Leads, Body 5x4.4mm, Pitch 0.65mm, Thermal Pad 1.830x2.055mm, IPC Medium Density)
footprint TI-PWP14-1830X2055TP_L (SOP, 14-Leads, Body 5x4.4mm, Pitch 0.65mm, Thermal Pad 1.830x2.055mm, IPC High Density)
footprint TI-PWP14-1830X2055TP_M (SOP, 14-Leads, Body 5x4.4mm, Pitch 0.65mm, Thermal Pad 1.830x2.055mm, IPC Low Density)
part A pins: 2 OUT1 (out), 4 IN1+ (in), 5 IN1- (in)
part B pins: 10 IN2- (in), 11 IN2+ (in), 13 OUT2 (out)
part C pins: 1 VCC- (power), 3 VCC+ (power), 6 NC, 7 NC, 8 NC, 9 NC, 12 VCC+ (power), 14 VCC- (power), 15 EP

## THS6032CDWP
designator U?
Low-Power ADSL Central Office Line Driver, 6 to 32 V, 0 to 70 degC, 20-pin SOP (DWP20), Green (RoHS & no Sb/Br); Manufacturer: Texas Instruments; PartNumber: THS6032CDWP; 2nd Harmonic(dBc): 79; 3rd Harmonic(dBc): 68; @ MHz: 1; BW @ Acl(MHz): 100; Diff Gain(%): 0.016; Diff Phase(deg): 0.4; Iib(Max)(nA): 12000; Io(Typ)(mA): 440; Number of Channels: 2; Settling Time (0.1%)(Typ)(ns): 120; Slew Rate(Typ)(V/us): 1200; Sub Family: High Output Current Amplifier (>=50mA), High Speed Amplifier (>=50MHz), High Supply Voltage Amplifier (>=30V); THD (Fc is 1 MHz)(Typ)(dB): -62; Vio(Max)(mV): 5; Vn at Flatband(Typ)(nV/rtHz): 2.4; Vs(Max)(V): 32; Vs(Min)(V): 6; DatasheetVersion: SLOS233F; PackageVersion: 4147575/C, 02/2005; PackageReference: DWP20-3905X3265TP; PackageDescription: 20-Pin PowerPAD(TM) Plastic Small-Outline Package, Body 12.825 x 7.52 mm, Pitch 1.27 mm; Supplier 1: Digi-Key; Supplier Part Number 1: 296-2373-5-ND; Supplier 2: Newark; Supplier Part Number 2: 76C6521; Supplier 3: Mouser; Supplier Part Number 3: 595-THS6032CDWP; Acl, min stable gain(V/V): 1; Eco-Plan: Green (RoHS & no Sb/Br); Mounting Technology: Surface Mount; ComponentLink1Description: Manufacturer URL; ComponentLink1URL: http://www.ti.com/; ComponentLink2Description: Datasheet; ComponentLink2URL: http://www.ti.com/general/docs/lit/getliterature.tsp?genericPartNumber=THS6032&fileType=pdf; ComponentLink3Description: Package Specification; ComponentLink3URL: http://www.ti.com/litv/pdf/mpds032b
footprint TI-DWP20-3905X3265TP_N (SOP, 20-Leads, Body 12.83x7.52mm, Pitch 1.27mm, Thermal Pad 3.27x3.91mm, IPC Medium Density)
footprint TI-DWP20-3905X3265TP_L (SOP, 20-Leads, Body 12.83x7.52mm, Pitch 1.27mm, Thermal Pad 3.27x3.91mm, IPC High Density)
footprint TI-DWP20-3905X3265TP_M (SOP, 20-Leads, Body 12.83x7.52mm, Pitch 1.27mm, Thermal Pad 3.27x3.91mm, IPC Low Density)
pins: 1 PAD (power), 2 VCCH- (power), 3 OUT1 (out), 4 VCCL- (power), 5 IN1- (in), 6 IN1+ (in), 7 NC, 8 SHDN1 (in), 9 SHDN2 (in), 10 PAD (power), 11 PAD (power), 12 DGND (power), 13 NC, 14 NC, 15 IN2+ (in), 16 IN2- (in), 17 VCCL+ (power), 18 OUT2 (out), 19 VCCH+ (power), 20 PAD (power), 21 EP (power)

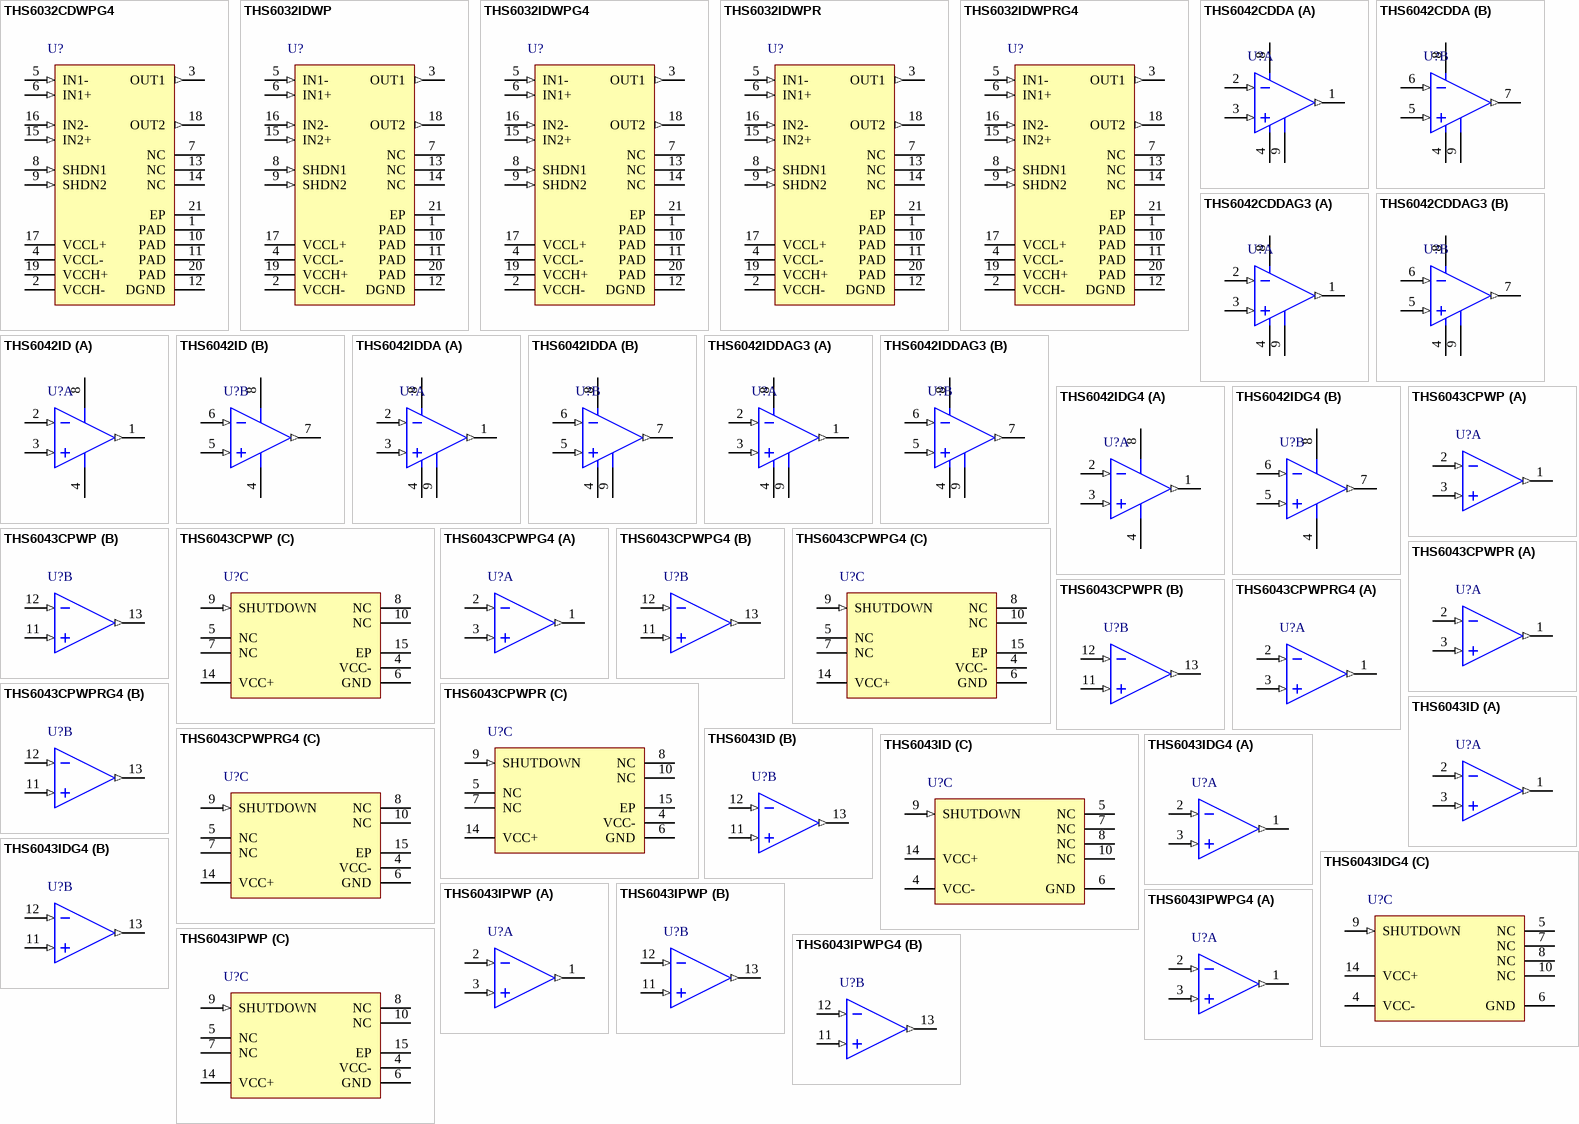
[diagram p46: symbols THS6032CDWPG4 to THS6043IPWPG4]

## THS6032CDWPG4
designator U?
Low-Power ADSL Central Office Line Driver, 6 to 32 V, 0 to 70 degC, 20-pin SOP (DWP20), Green (RoHS & no Sb/Br); Manufacturer: Texas Instruments; PartNumber: THS6032CDWPG4; 2nd Harmonic(dBc): 79; 3rd Harmonic(dBc): 68; @ MHz: 1; BW @ Acl(MHz): 100; Diff Gain(%): 0.016; Diff Phase(deg): 0.4; Iib(Max)(nA): 12000; Io(Typ)(mA): 440; Number of Channels: 2; Settling Time (0.1%)(Typ)(ns): 120; Slew Rate(Typ)(V/us): 1200; Sub Family: High Output Current Amplifier (>=50mA), High Speed Amplifier (>=50MHz), High Supply Voltage Amplifier (>=30V); THD (Fc is 1 MHz)(Typ)(dB): -62; Vio(Max)(mV): 5; Vn at Flatband(Typ)(nV/rtHz): 2.4; Vs(Max)(V): 32; Vs(Min)(V): 6; DatasheetVersion: SLOS233F; PackageVersion: 4147575/C, 02/2005; PackageReference: DWP20-3905X3265TP; PackageDescription: 20-Pin PowerPAD(TM) Plastic Small-Outline Package, Body 12.825 x 7.52 mm, Pitch 1.27 mm; Supplier 1: Digi-Key; Supplier Part Number 1: THS6032CDWPG4-ND; Supplier 2: Mouser; Supplier Part Number 2: 595-THS6032CDWPG4; Acl, min stable gain(V/V): 1; Eco-Plan: Green (RoHS & no Sb/Br); Mounting Technology: Surface Mount; ComponentLink1Description: Manufacturer URL; ComponentLink1URL: http://www.ti.com/; ComponentLink2Description: Datasheet; ComponentLink2URL: http://www.ti.com/general/docs/lit/getliterature.tsp?genericPartNumber=THS6032&fileType=pdf; ComponentLink3Description: Package Specification; ComponentLink3URL: http://www.ti.com/litv/pdf/mpds032b
footprint TI-DWP20-3905X3265TP_N (SOP, 20-Leads, Body 12.83x7.52mm, Pitch 1.27mm, Thermal Pad 3.27x3.91mm, IPC Medium Density)
footprint TI-DWP20-3905X3265TP_L (SOP, 20-Leads, Body 12.83x7.52mm, Pitch 1.27mm, Thermal Pad 3.27x3.91mm, IPC High Density)
footprint TI-DWP20-3905X3265TP_M (SOP, 20-Leads, Body 12.83x7.52mm, Pitch 1.27mm, Thermal Pad 3.27x3.91mm, IPC Low Density)
pins: 1 PAD (power), 2 VCCH- (power), 3 OUT1 (out), 4 VCCL- (power), 5 IN1- (in), 6 IN1+ (in), 7 NC, 8 SHDN1 (in), 9 SHDN2 (in), 10 PAD (power), 11 PAD (power), 12 DGND (power), 13 NC, 14 NC, 15 IN2+ (in), 16 IN2- (in), 17 VCCL+ (power), 18 OUT2 (out), 19 VCCH+ (power), 20 PAD (power), 21 EP (power)

## THS6032IDWP
designator U?
Low-Power ADSL Central Office Line Driver, 6 to 32 V, -40 to 85 degC, 20-pin SOP (DWP20), Green (RoHS & no Sb/Br); Manufacturer: Texas Instruments; PartNumber: THS6032IDWP; 2nd Harmonic(dBc): 79; 3rd Harmonic(dBc): 68; @ MHz: 1; BW @ Acl(MHz): 100; Diff Gain(%): 0.016; Diff Phase(deg): 0.4; Iib(Max)(nA): 12000; Io(Typ)(mA): 440; Number of Channels: 2; Settling Time (0.1%)(Typ)(ns): 120; Slew Rate(Typ)(V/us): 1200; Sub Family: High Output Current Amplifier (>=50mA), High Speed Amplifier (>=50MHz), High Supply Voltage Amplifier (>=30V); THD (Fc is 1 MHz)(Typ)(dB): -62; Vio(Max)(mV): 5; Vn at Flatband(Typ)(nV/rtHz): 2.4; Vs(Max)(V): 32; Vs(Min)(V): 6; DatasheetVersion: SLOS233F; PackageVersion: 4147575/C, 02/2005; PackageReference: DWP20-3905X3265TP; PackageDescription: 20-Pin PowerPAD(TM) Plastic Small-Outline Package, Body 12.825 x 7.52 mm, Pitch 1.27 mm; Supplier 1: Digi-Key; Supplier Part Number 1: 296-10065-5-ND; Supplier 2: Newark; Supplier Part Number 2: 76C6527; Supplier 3: Mouser; Supplier Part Number 3: 595-THS6032IDWP; Acl, min stable gain(V/V): 1; Eco-Plan: Green (RoHS & no Sb/Br); Mounting Technology: Surface Mount; ComponentLink1Description: Manufacturer URL; ComponentLink1URL: http://www.ti.com/; ComponentLink2Description: Datasheet; ComponentLink2URL: http://www.ti.com/general/docs/lit/getliterature.tsp?genericPartNumber=THS6032&fileType=pdf; ComponentLink3Description: Package Specification; ComponentLink3URL: http://www.ti.com/litv/pdf/mpds032b
footprint TI-DWP20-3905X3265TP_N (SOP, 20-Leads, Body 12.83x7.52mm, Pitch 1.27mm, Thermal Pad 3.27x3.91mm, IPC Medium Density)
footprint TI-DWP20-3905X3265TP_L (SOP, 20-Leads, Body 12.83x7.52mm, Pitch 1.27mm, Thermal Pad 3.27x3.91mm, IPC High Density)
footprint TI-DWP20-3905X3265TP_M (SOP, 20-Leads, Body 12.83x7.52mm, Pitch 1.27mm, Thermal Pad 3.27x3.91mm, IPC Low Density)
pins: 1 PAD (power), 2 VCCH- (power), 3 OUT1 (out), 4 VCCL- (power), 5 IN1- (in), 6 IN1+ (in), 7 NC, 8 SHDN1 (in), 9 SHDN2 (in), 10 PAD (power), 11 PAD (power), 12 DGND (power), 13 NC, 14 NC, 15 IN2+ (in), 16 IN2- (in), 17 VCCL+ (power), 18 OUT2 (out), 19 VCCH+ (power), 20 PAD (power), 21 EP (power)

## THS6032IDWPG4
designator U?
Low-Power ADSL Central Office Line Driver, 6 to 32 V, -40 to 85 degC, 20-pin SOP (DWP20), Green (RoHS & no Sb/Br); Manufacturer: Texas Instruments; PartNumber: THS6032IDWPG4; 2nd Harmonic(dBc): 79; 3rd Harmonic(dBc): 68; @ MHz: 1; BW @ Acl(MHz): 100; Diff Gain(%): 0.016; Diff Phase(deg): 0.4; Iib(Max)(nA): 12000; Io(Typ)(mA): 440; Number of Channels: 2; Settling Time (0.1%)(Typ)(ns): 120; Slew Rate(Typ)(V/us): 1200; Sub Family: High Output Current Amplifier (>=50mA), High Speed Amplifier (>=50MHz), High Supply Voltage Amplifier (>=30V); THD (Fc is 1 MHz)(Typ)(dB): -62; Vio(Max)(mV): 5; Vn at Flatband(Typ)(nV/rtHz): 2.4; Vs(Max)(V): 32; Vs(Min)(V): 6; DatasheetVersion: SLOS233F; PackageVersion: 4147575/C, 02/2005; PackageReference: DWP20-3905X3265TP; PackageDescription: 20-Pin PowerPAD(TM) Plastic Small-Outline Package, Body 12.825 x 7.52 mm, Pitch 1.27 mm; Supplier 1: Digi-Key; Supplier Part Number 1: THS6032IDWPG4-ND; Supplier 2: Mouser; Supplier Part Number 2: 595-THS6032IDWPG4; Acl, min stable gain(V/V): 1; Eco-Plan: Green (RoHS & no Sb/Br); Mounting Technology: Surface Mount; ComponentLink1Description: Manufacturer URL; ComponentLink1URL: http://www.ti.com/; ComponentLink2Description: Datasheet; ComponentLink2URL: http://www.ti.com/general/docs/lit/getliterature.tsp?genericPartNumber=THS6032&fileType=pdf; ComponentLink3Description: Package Specification; ComponentLink3URL: http://www.ti.com/litv/pdf/mpds032b
footprint TI-DWP20-3905X3265TP_N (SOP, 20-Leads, Body 12.83x7.52mm, Pitch 1.27mm, Thermal Pad 3.27x3.91mm, IPC Medium Density)
footprint TI-DWP20-3905X3265TP_L (SOP, 20-Leads, Body 12.83x7.52mm, Pitch 1.27mm, Thermal Pad 3.27x3.91mm, IPC High Density)
footprint TI-DWP20-3905X3265TP_M (SOP, 20-Leads, Body 12.83x7.52mm, Pitch 1.27mm, Thermal Pad 3.27x3.91mm, IPC Low Density)
pins: 1 PAD (power), 2 VCCH- (power), 3 OUT1 (out), 4 VCCL- (power), 5 IN1- (in), 6 IN1+ (in), 7 NC, 8 SHDN1 (in), 9 SHDN2 (in), 10 PAD (power), 11 PAD (power), 12 DGND (power), 13 NC, 14 NC, 15 IN2+ (in), 16 IN2- (in), 17 VCCL+ (power), 18 OUT2 (out), 19 VCCH+ (power), 20 PAD (power), 21 EP (power)

## THS6032IDWPR
designator U?
Low-Power ADSL Central Office Line Driver, 6 to 32 V, -40 to 85 degC, 20-pin SOP (DWP20), Green (RoHS & no Sb/Br); Manufacturer: Texas Instruments; PartNumber: THS6032IDWPR; 2nd Harmonic(dBc): 79; 3rd Harmonic(dBc): 68; @ MHz: 1; BW @ Acl(MHz): 100; Diff Gain(%): 0.016; Diff Phase(deg): 0.4; Iib(Max)(nA): 12000; Io(Typ)(mA): 440; Number of Channels: 2; Settling Time (0.1%)(Typ)(ns): 120; Slew Rate(Typ)(V/us): 1200; Sub Family: High Output Current Amplifier (>=50mA), High Speed Amplifier (>=50MHz), High Supply Voltage Amplifier (>=30V); THD (Fc is 1 MHz)(Typ)(dB): -62; Vio(Max)(mV): 5; Vn at Flatband(Typ)(nV/rtHz): 2.4; Vs(Max)(V): 32; Vs(Min)(V): 6; DatasheetVersion: SLOS233F; PackageVersion: 4147575/C, 02/2005; PackageReference: DWP20-3905X3265TP; PackageDescription: 20-Pin PowerPAD(TM) Plastic Small-Outline Package, Body 12.825 x 7.52 mm, Pitch 1.27 mm; Supplier 1: Digi-Key; Supplier Part Number 1: THS6032IDWPR-ND; Supplier 2: Mouser; Supplier Part Number 2: 595-THS6032IDWPR; Acl, min stable gain(V/V): 1; Eco-Plan: Green (RoHS & no Sb/Br); Mounting Technology: Surface Mount; ComponentLink1Description: Manufacturer URL; ComponentLink1URL: http://www.ti.com/; ComponentLink2Description: Datasheet; ComponentLink2URL: http://www.ti.com/general/docs/lit/getliterature.tsp?genericPartNumber=THS6032&fileType=pdf; ComponentLink3Description: Package Specification; ComponentLink3URL: http://www.ti.com/litv/pdf/mpds032b
footprint TI-DWP20-3905X3265TP_N (SOP, 20-Leads, Body 12.83x7.52mm, Pitch 1.27mm, Thermal Pad 3.27x3.91mm, IPC Medium Density)
footprint TI-DWP20-3905X3265TP_L (SOP, 20-Leads, Body 12.83x7.52mm, Pitch 1.27mm, Thermal Pad 3.27x3.91mm, IPC High Density)
footprint TI-DWP20-3905X3265TP_M (SOP, 20-Leads, Body 12.83x7.52mm, Pitch 1.27mm, Thermal Pad 3.27x3.91mm, IPC Low Density)
pins: 1 PAD (power), 2 VCCH- (power), 3 OUT1 (out), 4 VCCL- (power), 5 IN1- (in), 6 IN1+ (in), 7 NC, 8 SHDN1 (in), 9 SHDN2 (in), 10 PAD (power), 11 PAD (power), 12 DGND (power), 13 NC, 14 NC, 15 IN2+ (in), 16 IN2- (in), 17 VCCL+ (power), 18 OUT2 (out), 19 VCCH+ (power), 20 PAD (power), 21 EP (power)

## THS6032IDWPRG4
designator U?
Low-Power ADSL Central Office Line Driver, 6 to 32 V, -40 to 85 degC, 20-pin SOP (DWP20), Green (RoHS & no Sb/Br); Manufacturer: Texas Instruments; PartNumber: THS6032IDWPRG4; 2nd Harmonic(dBc): 79; 3rd Harmonic(dBc): 68; @ MHz: 1; BW @ Acl(MHz): 100; Diff Gain(%): 0.016; Diff Phase(deg): 0.4; Iib(Max)(nA): 12000; Io(Typ)(mA): 440; Number of Channels: 2; Settling Time (0.1%)(Typ)(ns): 120; Slew Rate(Typ)(V/us): 1200; Sub Family: High Output Current Amplifier (>=50mA), High Speed Amplifier (>=50MHz), High Supply Voltage Amplifier (>=30V); THD (Fc is 1 MHz)(Typ)(dB): -62; Vio(Max)(mV): 5; Vn at Flatband(Typ)(nV/rtHz): 2.4; Vs(Max)(V): 32; Vs(Min)(V): 6; DatasheetVersion: SLOS233F; PackageVersion: 4147575/C, 02/2005; PackageReference: DWP20-3905X3265TP; PackageDescription: 20-Pin PowerPAD(TM) Plastic Small-Outline Package, Body 12.825 x 7.52 mm, Pitch 1.27 mm; Supplier 1: Digi-Key; Supplier Part Number 1: THS6032IDWPRG4-ND; Supplier 2: Newark; Supplier Part Number 2: 61K1748; Supplier 3: Mouser; Supplier Part Number 3: 595-THS6032IDWPRG4; Acl, min stable gain(V/V): 1; Eco-Plan: Green (RoHS & no Sb/Br); Mounting Technology: Surface Mount; ComponentLink1Description: Manufacturer URL; ComponentLink1URL: http://www.ti.com/; ComponentLink2Description: Datasheet; ComponentLink2URL: http://www.ti.com/general/docs/lit/getliterature.tsp?genericPartNumber=THS6032&fileType=pdf; ComponentLink3Description: Package Specification; ComponentLink3URL: http://www.ti.com/litv/pdf/mpds032b
footprint TI-DWP20-3905X3265TP_N (SOP, 20-Leads, Body 12.83x7.52mm, Pitch 1.27mm, Thermal Pad 3.27x3.91mm, IPC Medium Density)
footprint TI-DWP20-3905X3265TP_L (SOP, 20-Leads, Body 12.83x7.52mm, Pitch 1.27mm, Thermal Pad 3.27x3.91mm, IPC High Density)
footprint TI-DWP20-3905X3265TP_M (SOP, 20-Leads, Body 12.83x7.52mm, Pitch 1.27mm, Thermal Pad 3.27x3.91mm, IPC Low Density)
pins: 1 PAD (power), 2 VCCH- (power), 3 OUT1 (out), 4 VCCL- (power), 5 IN1- (in), 6 IN1+ (in), 7 NC, 8 SHDN1 (in), 9 SHDN2 (in), 10 PAD (power), 11 PAD (power), 12 DGND (power), 13 NC, 14 NC, 15 IN2+ (in), 16 IN2- (in), 17 VCCL+ (power), 18 OUT2 (out), 19 VCCH+ (power), 20 PAD (power), 21 EP (power)